# Altium schematic symbol library LTC6752-2.SchLib: 1 symbol
Pins are listed as number, name and electrical type; pins without a type are passive.

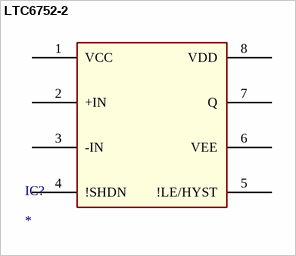
[diagram p0: symbol LTC6752-2]

## LTC6752-2
designator IC?
footprint MSOP8 (TSOP, 8-Leads, Body 3.00x3.00mm, Pitch 0.65mm, IPC Medium Density)
pins: 1 VCC, 2 +IN, 3 -IN, 4 !SHDN, 5 !LE/HYST, 6 VEE, 7 Q, 8 VDD